# Altium schematic symbol library Schlib.SchLib: 7 symbols
Pins are listed as number, name and electrical type; pins without a type are passive.

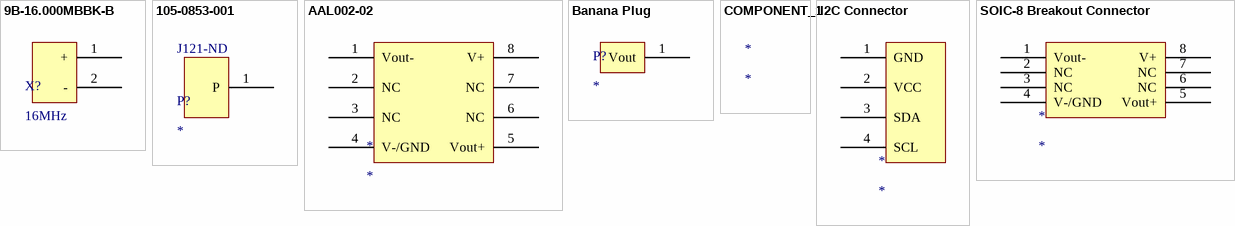
[diagram p0: symbols 9B-16.000MBBK-B to SOIC-8 Breakout Connector]

## 9B-16.000MBBK-B
designator X?, comment 16MHz
9B-16.000MBBK-B
pins: 1 +, 2 -

## 105-0853-001
designator P?  Supplier Part Number 1: J121-ND
Supplier 1: Digi-Key
pins: 1 P

## AAL002-02
designator *
pins: 1 Vout-, 2 NC, 3 NC, 4 V-/GND, 5 Vout+, 6 NC, 7 NC, 8 V+

## Banana Plug
designator P?
Pomona Model 1581
footprint Banana Jack Footprint
pins: 1 Vout

## COMPONENT_1
designator *

## I2C Connector
designator *
pins: 1 GND, 2 VCC "5V", 3 SDA, 4 SCL

## SOIC-8 Breakout Connector
designator *
footprint SOIC-8 Breakout Board
pins: 1 Vout-, 2 NC, 3 NC, 4 V-/GND, 5 Vout+, 6 NC, 7 NC, 8 V+